# Altium schematic symbol library Teensy 3.6.SchLib: 1 symbol
Pins are listed as number, name and electrical type; pins without a type are passive.

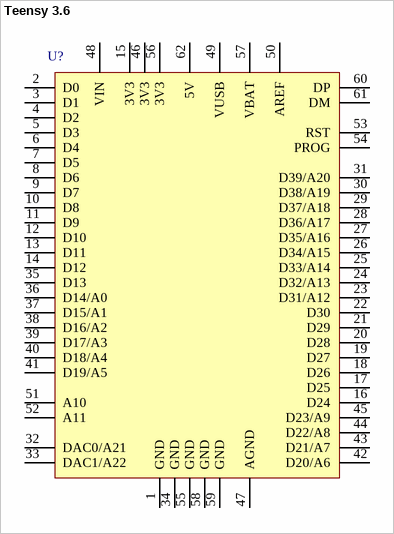
[diagram p0: symbol Teensy 3.6]

## Teensy 3.6
designator U?  (value not drawn)
pins: 1 GND, 2 D0, 3 D1, 4 D2, 5 D3, 6 D4, 7 D5, 8 D6, 9 D7, 10 D8, 11 D9, 12 D10, 13 D11, 14 D12, 15 3V3, 16 D24, 17 D25, 18 D26, 19 D27, 20 D28, 21 D29, 22 D30, 23 D31/A12, 24 D32/A13, 25 D33/A14, 26 D34/A15, 27 D35/A16, 28 D36/A17, 29 D37/A18, 30 D38/A19, 31 D39/A20, 32 DAC0/A21, 33 DAC1/A22, 34 GND, 35 D13, 36 D14/A0, 37 D15/A1, 38 D16/A2, 39 D17/A3, 40 D18/A4, 41 D19/A5, 42 D20/A6, 43 D21/A7, 44 D22/A8, 45 D23/A9, 46 3V3, 47 AGND, 48 VIN, 49 VUSB, 50 AREF, 51 A10, 52 A11, 53 RST, 54 PROG, 55 GND, 56 3V3, 57 VBAT, 58 GND, 59 GND, 60 DP, 61 DM, 62 5V